# Altium footprint library SAMTEC SSW-103-03-T-S.PCBLIB: 1 footprints
Each footprint in its own frame and in the unit in brackets; x right, y up, seen from the top. Pads: shape width x height; smd on the part's side, far side on the other; paste and mask are expansions set on the pad; w line width, h text height; cw(c..) or ccw(c..) is an arc to the next point about the centre after c.
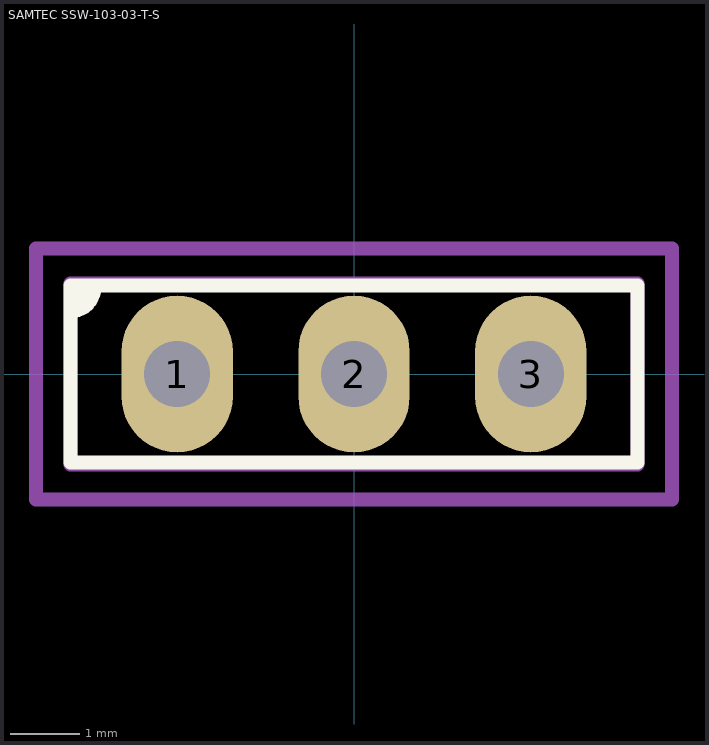
[diagram p0: the footprint, top view; thin cyan lines are the x and y axes]

## SAMTEC SSW-103-03-T-S [mm]
height 8.51
pads (3):
  oval 1.6x2.25 hole 0.95: 1(-2.54,0) 2(0,0) 3(2.54,0)
Top Overlay:
  region: -4.07,1.27 -3.73,1.27 -3.73,1.1 -3.93,0.9 -4.07,0.9
  lines w0.2: -4.07,0.9 ccw(c-4.07,1.24) -3.73,1.24 -3.73,1.27 ; -4.07,-1.27 4.07,-1.27 4.07,1.27 -4.07,1.27 -4.07,-1.27
Mechanical 13:
  lines w0.2: -4.07,-1.3 -4.07,1.3 4.07,1.3 4.07,-1.3 -4.07,-1.3
Mechanical 15:
  lines w0.2: -0.5,0 0.5,0 ; 0,-0.5 0,0.5 ; -4.57,-1.8 4.57,-1.8 4.57,1.8 -4.57,1.8 -4.57,-1.8
3D body "Samtec-SSW-103-03-T-S.STEP": height 8.51, standoff -10.01, extent -4.064,-1.206 4.064,1.207